# EAGLE library part FFC3B07-09-T (library FFC3B07-09-T)
FPC 1.0mm Pitch, Side entry, Top contact, SMT, Height 2.5mm, Slide type
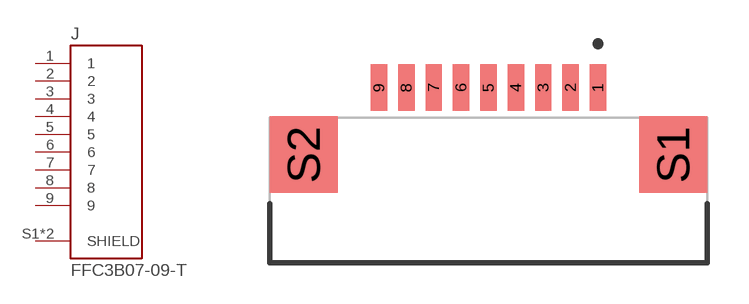
[diagram p0: symbol with the pads of GCT_FFC3B07-09-T; footprint GCT_FFC3B07-09-T]

Designator prefix J

## FFC3B07-09-T (MANUFACTURER: GCT; MAXIMUM_PACKAGE_HEIGHT: 2.5mm; PARTREV: A; STANDARD: Manufacturer Recommendations)  [GCT_FFC3B07-09-T]
1  1  pas
2  2  pas
3  3  pas
4  4  pas
5  5  pas
6  6  pas
7  7  pas
8  8  pas
9  9  pas
S1  SHIELD  pas
S2  SHIELD  pas

## Footprint GCT_FFC3B07-09-T (pad centres in mm)
smd 0.6 x 1.7: 1 4,2.45; 2 3,2.45; 3 2,2.45; 4 1,2.45; 5 0,2.45; 6 -1,2.45; 7 -2,2.45; 8 -3,2.45; 9 -4,2.45
smd 2.5 x 2.8: S1 6.75,0; S2 -6.75,0